# Altium integrated library T491X106K050AT.IntLib: 1 symbol
Pins are listed as number, name and electrical type; pins without a type are passive.

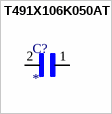
[diagram p0: symbol T491X106K050AT]

## T491X106K050AT
designator C?
10 ÂµF Molded Tantalum Capacitors 50 V 2917 (7343 Metric) 700mOhm; MF: KEMET; MP: T491X106K050AT; SnapEDA_Link: https://www.snapeda.com/parts/T491X106K050AT/KEMET/view-part/?ref=snap; Purchase-URL: https://pricing.snapeda.com/search/part/T491X106K050AT/?ref=eda; Package: SMD-2 KEMET; Price: None; Availability: In Stock; Check_prices: https://www.snapeda.com/parts/T491X106K050AT/KEMET/view-part/?ref=eda; Value: *
footprint CAPMP7343X430N
pins: 1, 2